# Altium schematic symbol library PDTC114ET.SchLib: 1 symbol
Pins are listed as number, name and electrical type; pins without a type are passive.

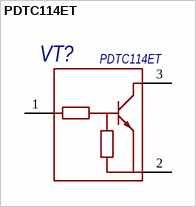
[diagram p0: symbol PDTC114ET]

## PDTC114ET
designator VT?
pins: 1 B, 2 E, 3 C